# Altium footprint library 2121_Robot3Roues1.PcbLib: 39 footprints (part 1 of 3)
Each footprint in its own frame and in the unit in brackets; x right, y up, seen from the top. Pads: shape width x height; smd on the part's side, far side on the other; paste and mask are expansions set on the pad; w line width, h text height; cw(c..) or ccw(c..) is an arc to the next point about the centre after c.
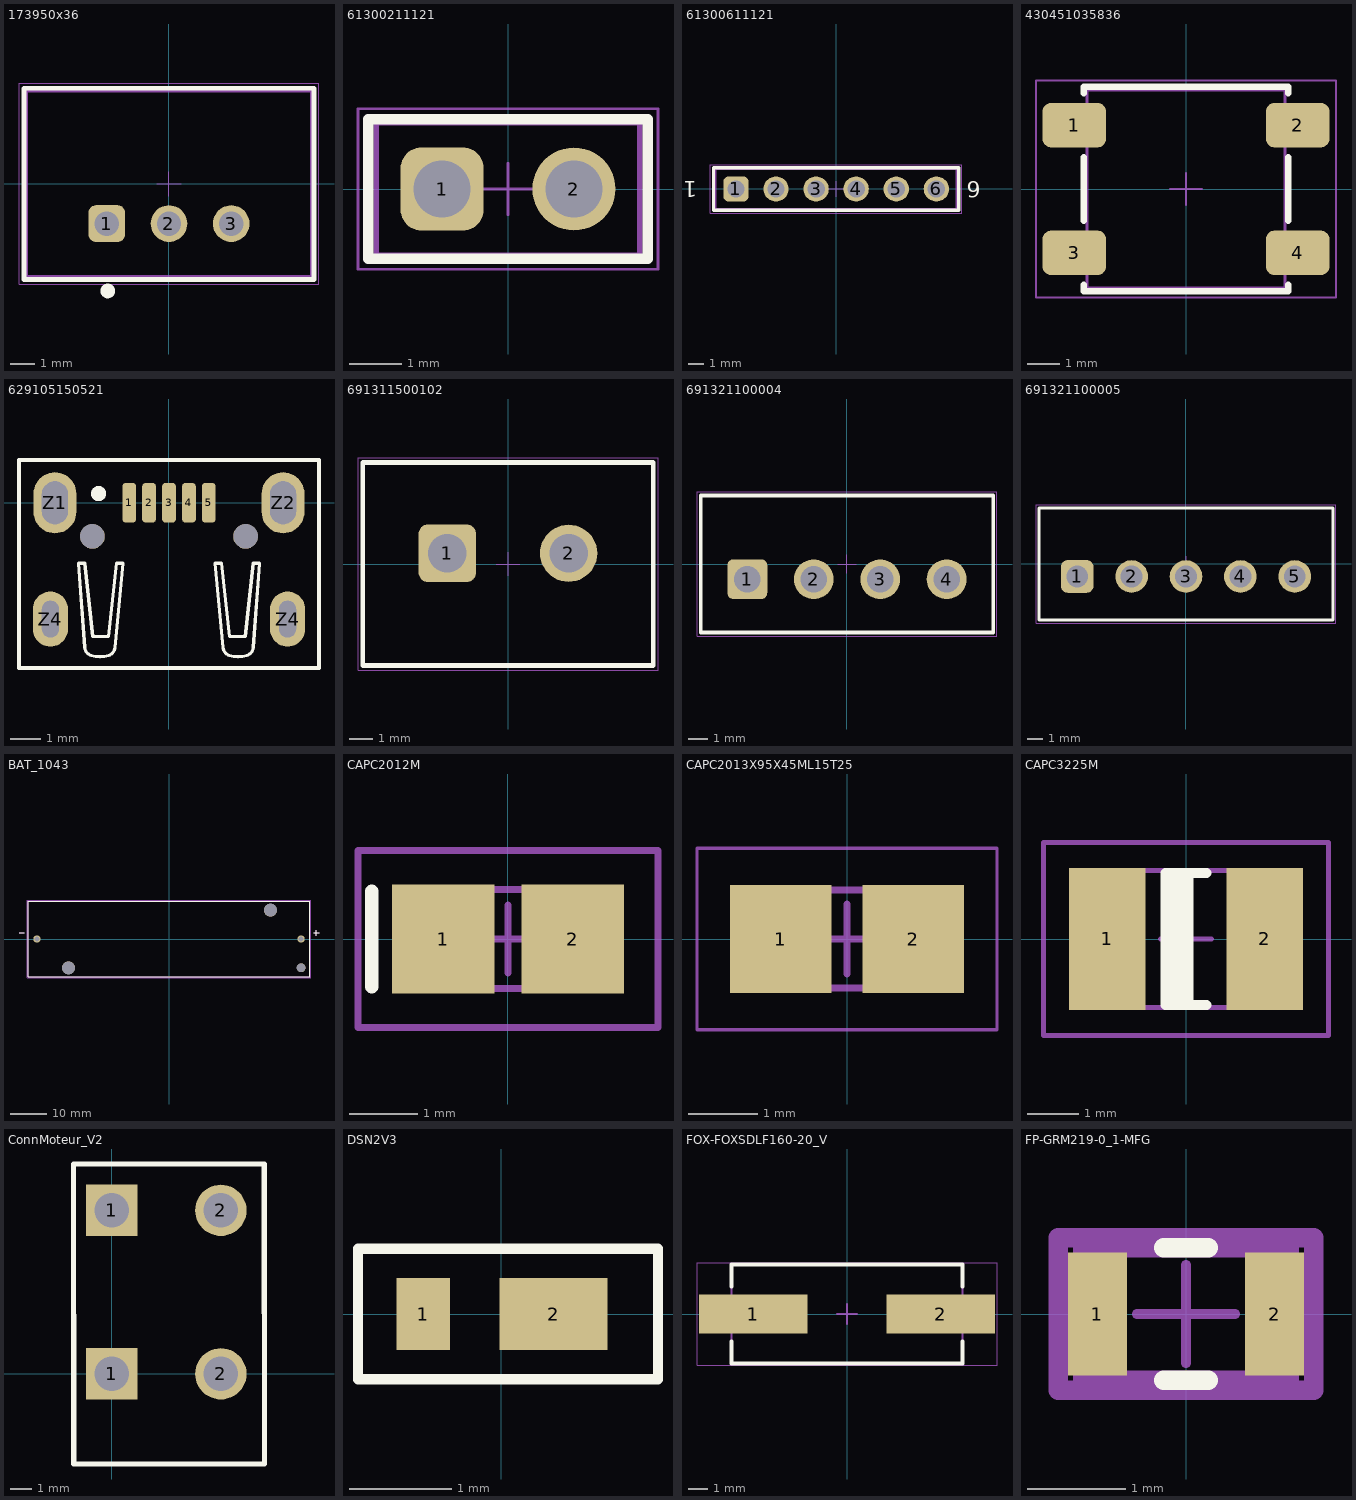
[diagram p0: the footprints below, top view; thin cyan lines are the x and y axes]

## 173950x36 [mm]
pads (3):
  rrect40% 1.5x1.5 hole 1: 1(-2.54,-1.625)
  round 1.5 hole 1: 2(0,-1.625) 3(2.54,-1.625)
Top Overlay:
  circle w0.3: c-2.5,-4.375 r0.15
  lines w0.2: -5.925,-3.9 5.925,-3.9 5.925,3.9 -5.925,3.9 -5.925,-3.9
Bottom 3D Body:
  lines w0.1: -5.8,-3.775 -5.8,3.775 5.8,3.775 5.8,-3.775 -5.8,-3.775
Bottom Courtyard:
  lines w0.05: -0.5,0 0.5,0 ; 0,-0.5 0,0.5 ; -6.125,-4.1 -6.125,4.1 6.125,4.1 6.125,-4.1 -6.125,-4.1
3D body "173950x36.stp": height 10.2, standoff -4.06, extent -5.8,-3.775 5.8,3.775

## 61300211121 [mm]
pads (2):
  rrect50% 1.6x1.6 hole 1.1: 1(-1.27,0)
  round 1.6 hole 1.1: 2(1.27,0)
Top Overlay:
  lines w0.2: -2.69,-1.345 -2.69,1.345 2.69,1.345 2.69,-1.345 -2.69,-1.345
Top 3D Body:
  lines w0.1: -2.54,-1.27 2.54,-1.27 2.54,1.27 -2.54,1.27 -2.54,-1.27
Top Courtyard:
  lines w0.05: -0.5,0 0.5,0 ; 0,-0.5 0,0.5 ; -2.89,-1.545 2.89,-1.545 2.89,1.545 -2.89,1.545 -2.89,-1.545
3D body "61300211121.stp": height 8.57, standoff -2.97, extent -2.54,-1.27 2.54,1.27

## 61300611121 [mm]
pads (6):
  rrect40% 1.6x1.6 hole 1.1: 1(-6.35,0)
  round 1.6 hole 1.1: 2(-3.81,0) 3(-1.27,0) 4(1.27,0) 5(3.81,0) 6(6.35,0)
Top Overlay:
  lines w0.2: -7.77,-1.345 -7.77,1.345 7.77,1.345 7.77,-1.345 -7.77,-1.345
  text "6" at 9.18,0.5 h1.02
  text "1" at -8.82,0.5 h1.02
Top 3D Body:
  lines w0.1: -7.62,-1.27 7.62,-1.27 7.62,1.27 -7.62,1.27 -7.62,-1.27
Top Courtyard:
  lines w0.05: -0.5,0 0.5,0 ; 0,-0.5 0,0.5 ; -7.97,-1.545 7.97,-1.545 7.97,1.545 -7.97,1.545 -7.97,-1.545
3D body "61300611121.stp": height 8.57, standoff -2.97, extent -7.62,-1.27 7.62,1.27

## 430451035836 [mm]
pads (4):
  rrect40% 2x1.4 smd: 1(-3.5,2) 2(3.5,2) 3(-3.5,-2) 4(3.5,-2)
Top Overlay:
  lines w0.2: -3.2,-3 -3.2,-3.2 3.2,-3.2 3.2,-3 ; -3.2,-1 -3.2,1 ; -3.2,3 -3.2,3.2 3.2,3.2 3.2,3 ; 3.2,-1 3.2,1
Top 3D Body:
  lines w0.1: -3.1,-2.35 -4,-2.35 -4,-1.65 -3.1,-1.65 ; -3.1,1.65 -4,1.65 -4,2.35 -3.1,2.35 ; 3.1,-2.35 4,-2.35 4,-1.65 3.1,-1.65 ; 3.1,1.65 4,1.65 4,2.35 3.1,2.35 ; -3.1,-3.1 -3.1,3.1 3.1,3.1 3.1,-3.1 -3.1,-3.1
Top Courtyard:
  lines w0.05: -0.5,0 0.5,0 ; 0,-0.5 0,0.5 ; -4.7,-3.4 -4.7,3.4 4.7,3.4 4.7,-3.4 -4.7,-3.4
3D body "4304x10358x6.stp": height 3.5, standoff 0, extent -4,-3.1 4,3.1

## 629105150521 [mm]
pads (11):
  rrect50% 0.45x1.3 smd: 1(-1.3,0) 2(-0.65,0) 3(0,0) 4(0.65,0) 5(1.3,0)
  oval 1.4x2 hole 0.85 slot 1.4 at 90 deg: Z1(-3.725,0) Z2(3.725,0)
  oval 1.15x1.8 hole 0.55 slot 1.2 at 90 deg: Z4(-3.875,-3.8) Z4(3.875,-3.8)
  round 0.8 hole 0.8 unplated: ""(-2.5,-1.1) ""(2.5,-1.1)
Top Overlay:
  circle w0.254: c-2.3,0.3 r0.12
  lines w0.102: -2.959,-1.977 -2.751,-1.977 -2.492,-4.365 -1.973,-4.365 -1.713,-1.977 -1.505,-1.977 -1.765,-4.728 cw(c-2.059,-4.706) -1.973,-4.988 cw(c-2.258,-4.057) -2.544,-4.988 cw(c-2.457,-4.706) -2.751,-4.728 -2.959,-1.977 ; 1.505,-1.977 1.713,-1.977 1.973,-4.365 2.492,-4.365 2.751,-1.977 2.959,-1.977 2.751,-4.728 cw(c2.457,-4.706) 2.544,-4.988 cw(c2.258,-4.057) 1.973,-4.988 cw(c2.059,-4.706) 1.765,-4.728 1.505,-1.977
  lines w0.127: -4.9,-5.4 4.9,-5.4 4.9,1.4 -4.9,1.4 -4.9,-5.4
3D body "629105150521.stp": height 2.67, standoff -0.89, extent -4.001,-6.25 3.999,0.353

## 691311500102 [mm]
pads (2):
  rrect30% 2.4x2.4 hole 1.6: 1(-2.54,0.45)
  round 2.4 hole 1.6: 2(2.54,0.45)
Top Overlay:
  lines w0.2: -6.08,-4.25 -6.08,4.25 6.08,4.25 6.08,-4.25 -6.08,-4.25
Bottom 3D Body:
  lines w0.1: -6.08,-4.25 6.08,-4.25 6.08,4.25 -6.08,4.25 -6.08,-4.25
Bottom Courtyard:
  lines w0.05: -0.5,0 0.5,0 ; 0,-0.5 0,0.5 ; -6.28,-4.45 -6.28,4.45 6.28,4.45 6.28,-4.45 -6.28,-4.45
3D body "691311500102.stp": height 12.05, standoff -3.95, extent -6.08,-4.25 6.08,4.25

## 691321100004 [mm]
pads (4):
  rrect30% 2.1x2.1 hole 1.4: 1(-5.25,-0.8)
  round 2.1 hole 1.4: 2(-1.75,-0.8) 3(1.75,-0.8) 4(5.25,-0.8)
Top Overlay:
  lines w0.2: -7.7,-3.6 7.7,-3.6 7.7,3.6 -7.7,3.6 -7.7,-3.6
Bottom 3D Body:
  lines w0.1: -7.7,-3.6 -7.7,3.6 7.7,3.6 7.7,-3.6 -7.7,-3.6
Bottom Courtyard:
  lines w0.05: -0.5,0 0.5,0 ; 0,-0.5 0,0.5 ; -7.9,-3.8 7.9,-3.8 7.9,3.8 -7.9,3.8 -7.9,-3.8
3D body "691321100004.stp": height 9.3, standoff -3.4, extent -7.7,-3.6 7.7,3.6

## 691321100005 [mm]
pads (5):
  rrect40% 2.1x2.1 hole 1.4: 1(-7,-0.8)
  round 2.1 hole 1.4: 2(-3.5,-0.8) 3(0,-0.8) 4(3.5,-0.8) 5(7,-0.8)
Top Overlay:
  lines w0.2: -9.45,-3.6 -9.45,3.6 9.45,3.6 9.45,-3.6 -9.45,-3.6
Bottom 3D Body:
  lines w0.1: -9.45,-3.6 9.45,-3.6 9.45,3.6 -9.45,3.6 -9.45,-3.6
Bottom Courtyard:
  lines w0.05: -0.5,0 0.5,0 ; 0,-0.5 0,0.5 ; -9.65,-3.8 -9.65,3.8 9.65,3.8 9.65,-3.8 -9.65,-3.8
3D body "691321100005.stp": height 9.3, standoff -3.4, extent -9.45,-3.6 9.45,3.6

## BAT_1043 [mm]
pads (5):
  round 1.98 hole 1.32: 1(36.11,0) 2(-36.11,0)
  round 3.55 hole 3.55 unplated: ""(-27.47,-7.87) ""(27.73,7.87)
  round 2.39 hole 2.39 unplated: ""(36.11,-7.87)
Top Overlay:
  lines w0.127: -41,1.7 -39.5,1.7 ; 39.5,1.7 41,1.7 ; 40.25,0.95 40.25,2.45 ; -38.525,-10.325 38.525,-10.325 38.525,10.325 -38.525,10.325 -38.525,-10.325
Mechanical 13:
  lines w0.127: -41,1.7 -39.5,1.7 ; 39.5,1.7 41,1.7 ; 40.25,0.95 40.25,2.45 ; -38.525,-10.325 38.525,-10.325 38.525,10.325 -38.525,10.325 -38.525,-10.325
Mechanical 15:
  lines w0.05: -38.775,-10.575 38.775,-10.575 38.775,10.575 -38.775,10.575 -38.775,-10.575

## CAPC2012M [mm] "Chip Capacitor, Body 2.0x1.3mm, IPC Low Density"
height 1.1
pads (2):
  rect 1.5x1.6 smd: 1(-0.95,0) 2(0.95,0)
Top Overlay:
  lines w0.2: -2,-0.7 -2,0.7
Mechanical 13:
  lines w0.1: -1.1,-0.725 -1.1,0.725 1.1,0.725 1.1,-0.725 -1.1,-0.725
Mechanical 15:
  lines w0.1: -0.5,0 0.5,0 ; 0,-0.5 0,0.5 ; -2.2,-1.3 -2.2,1.3 2.2,1.3 2.2,-1.3 -2.2,-1.3
3D body: height 1.1, standoff 0, extent -1.1,-0.725 1.1,0.725

## CAPC2013X95X45ML15T25 [mm] "Chip Capacitor, 2-Leads, Body 2.00x1.25mm, IPC Low Density"
height 0.95
pads (2):
  rect 1.45x1.55 smd: 1(-0.95,0) 2(0.95,0)
Mechanical 13:
  lines w0.1: -1.075,-0.7 -1.075,0.7 1.075,0.7 1.075,-0.7 -1.075,-0.7
Mechanical 15:
  lines w0.05: -2.15,-1.3 -2.15,1.3 2.15,1.3 2.15,-1.3 -2.15,-1.3
  lines w0.1: -0.5,0 0.5,0 ; 0,-0.5 0,0.5
3D body: height 0.95, standoff 0, extent -0.625,-0.7 0.625,0.7
3D body: height 0.95, standoff 0, extent -1.075,-0.7 -0.625,0.7
3D body: height 0.95, standoff 0, extent 0.625,-0.7 1.075,0.7

## CAPC3225M [mm] "Chip Capacitor, Body 3.2x2.5mm, IPC Low Density"
height 1.35
pads (2):
  rect 1.5x2.8 smd: 1(-1.55,0) 2(1.55,0)
Top Overlay:
  rectangle: -0.4,-1.3 0.15,1.3
  lines w0.2: 0.4,-1.3 -0.4,-1.3 -0.4,1.3 0.4,1.3
Mechanical 13:
  lines w0.1: -1.7,-1.35 1.7,-1.35 1.7,1.35 -1.7,1.35 -1.7,-1.35
Mechanical 15:
  lines w0.1: -0.5,0 0.5,0 ; 0,-0.5 0,0.5 ; -2.8,-1.9 2.8,-1.9 2.8,1.9 -2.8,1.9 -2.8,-1.9
3D body: height 1.35, standoff 0, extent -1.7,-1.35 1.7,1.35

## ConnMoteur_V2 [mm]
pads (4):
  rect 2.4x2.4 hole 1.6: 1(0,0) 1(0,7.62)
  round 2.4 hole 1.6: 2(5.08,0) 2(5.08,7.62)
Top Overlay:
  lines w0.254: -1.778,-4.2 7.112,-4.2 7.102,9.779 -1.788,9.779 -1.778,-4.191

## DSN2V3 [mm]
pads (2):
  rect 0.52x0.7 smd: 1(-0.762,0)
  rect 1.05x0.7 smd: 2(0.508,0)
Top Overlay:
  lines w0.1: -1.397,-0.635 -1.397,0.635 1.524,0.635 1.524,-0.635 -1.397,-0.635

## FOX-FOXSDLF160-20_V [mm] "SMD, 2-Leads, Body 5x11.7mm, Height 4.5mm"
height 4.5
pads (2):
  rect 5.5x2 smd: 1(-4.75,0) 2(4.75,0)
Top Overlay:
  lines w0.2: -5.85,-1.4 -5.85,-2.5 5.85,-2.5 5.85,-1.4 ; -5.85,1.4 -5.85,2.5 5.85,2.5 5.85,1.4
Mechanical 13:
  lines w0.1: -5.85,-2.5 5.85,-2.5 5.85,2.5 -5.85,2.5 -5.85,-2.5
Mechanical 15:
  lines w0.05: -7.6,-2.6 -7.6,2.6 7.6,2.6 7.6,-2.6 -7.6,-2.6
  lines w0.1: -0.5,0 0.5,0 ; 0,-0.5 0,0.5
3D body: height 4.5, standoff 0, extent -5.85,-2.5 5.85,2.5

## FP-GRM219-0_1-MFG [mm]
pads (2):
  rect 0.6x1.25 smd paste+0 mask+0: 1(-0.9,0) 2(0.9,0)
Top Overlay:
  lines w0.2: -0.225,-0.675 0.225,-0.675 ; -0.225,0.675 0.225,0.675
Top 3D Body:
  lines w0.2: -1.05,-0.675 1.05,-0.675 1.05,0.675 -1.05,0.675 -1.05,-0.675
Top Courtyard:
  lines w0.2: -1.3,-0.775 1.3,-0.775 1.3,0.775 -1.3,0.775 -1.3,-0.775
Top Assembly:
  lines w0.2: -1.3,-0.775 1.3,-0.775 1.3,0.775 -1.3,0.775 -1.3,-0.775
  text ".Designator" at 0,0.188 h1
Top Component Center:
  lines w0.1: -0.5,0 0.5,0 ; 0,-0.5 0,0.5
3D body "Cap_Murata_GRM2191X1A393JA01D_eec.STEP": height 0.25, standoff 0, extent -1.3,-0.775 1.3,0.775